# Altium integrated library CL21A106KOQNNNG.IntLib: 1 symbol
Pins are listed as number, name and electrical type; pins without a type are passive.

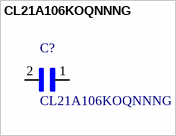
[diagram p0: symbol CL21A106KOQNNNG]

## CL21A106KOQNNNG
designator C?
/ CAP CER 10UF 16V X5R 0805 /; MF: Samsung Electro-Mechanics; SnapEDA_Link: https://www.snapeda.com/parts/CL21A106KOQNNNG/Samsung%20Electro-Mechanics/view-part/?ref=snap; Digi-Key_Purchase_URL: https://www.digikey.com/product-detail/en/samsung-electro-mechanics/CL21A106KOQNNNG/1276-6455-1-ND/5958083?utm_source=snapeda&utm_medium=aggregator&utm_campaign=symbol; MP: CL21A106KOQNNNG; Package: 0805 Samsung Electro-Mechanics; Digi-Key_Part_Number: 1276-6455-1-ND; Value: *
footprint *CAPC2012X140N
pins: 1, 2